# EAGLE library part SSQ-110-03-T-S (library universal_sensor_node)
CONN SOCKET, 2.54MM, THT VERT, 10POS
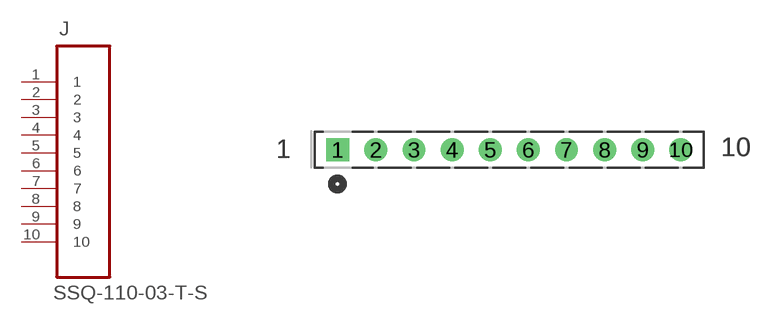
[diagram p2: symbol with the pads of SAMTEC_SSQ-110-03-T-S; footprint SAMTEC_SSQ-110-03-T-S]

Designator prefix J

## SSQ-110-03-T-S (DIGI-KEY_PN: SAM1206-10-ND; MF: Samtec; MPN: SSQ-110-03-T-S; PACKAGE: None; VERIFIED: no)  [SAMTEC_SSQ-110-03-T-S]
1  1  pas
2  2  pas
3  3  pas
4  4  pas
5  5  pas
6  6  pas
7  7  pas
8  8  pas
9  9  pas
10  10  pas

## Footprint SAMTEC_SSQ-110-03-T-S (pad centres in mm)
drill 1.016 square: 1 -22.86,0
drill 1.016: 2 -20.32,0; 3 -17.78,0; 4 -15.24,0; 5 -12.7,0; 6 -10.16,0; 7 -7.62,0; 8 -5.08,0; 9 -2.54,0; 10 0,0